# EAGLE library part PCM1808 (library OSSC_HDMI_Audio)
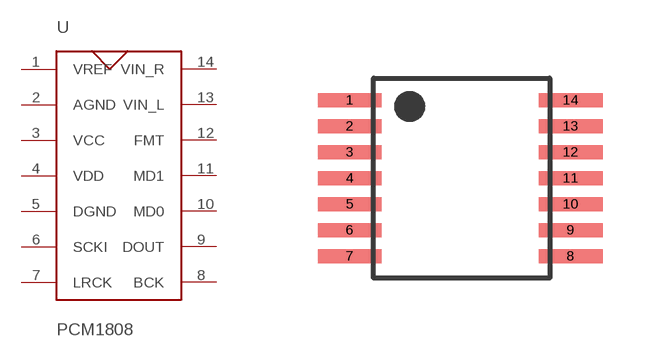
[diagram p1: symbol with the pads of PCM1808; footprint PCM1808]

Designator prefix -

## PCM1808  [PCM1808]
1  VREF
2  AGND
3  VCC
4  VDD
5  DGND
6  SCKI
7  LRCK
8  BCK
9  DOUT
10  MD0
11  MD1
12  FMT
13  VIN_L
14  VIN_R

## Footprint PCM1808 (pad centres in mm)
smd 1.6 x 0.35: 1 -2.8,1.95; 2 -2.8,1.3; 3 -2.8,0.65; 4 -2.8,0; 5 -2.8,-0.65; 6 -2.8,-1.3; 7 -2.8,-1.95; 8 2.725,-1.95; 9 2.725,-1.3; 10 2.725,-0.65; 11 2.725,0; 12 2.725,0.65; 13 2.725,1.3; 14 2.725,1.95